# EAGLE library part TXB0104 (library Eagle_CAD_parts)
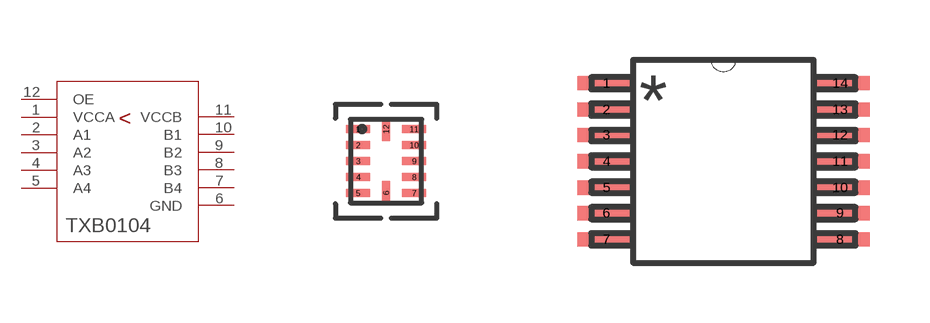
[diagram p37: symbol with the pads of 12-UQFN; footprints 12-UQFN, 14-TSSOP]

Designator prefix U

## TXB0104_RUTR (DIGIKEY_PART_NUMBER: 296-25888-1-ND; MANUFACTURER_PART_NUMBER: TXB0104RUTR)  [12-UQFN]
1  VCCA  pwr
2  A1
3  A2
4  A3
5  A4
6  GND  pwr
7  B4
8  B3
9  B2
10  B1
11  VCCB  pwr
12  OE  out

## TXB0104_PWR (DIGIKEY_PART_NUMBER: 296-21929-1-ND)  [14-TSSOP]
1  VCCA  pwr
2  A1
3  A2
4  A3
5  A4
7  GND  pwr
8  OE  out
10  B4
11  B3
12  B2
13  B1
14  VCCB  pwr

## Footprint 12-UQFN (pad centres in mm)
smd 0.6 x 0.2: 1 -0.7,0.8; 2 -0.7,0.4; 3 -0.7,0; 4 -0.7,-0.4; 5 -0.7,-0.8; 7 0.7,-0.8; 8 0.7,-0.4; 9 0.7,0; 10 0.7,0.4; 11 0.7,0.8
smd 0.2 x 0.6: 6 0,-0.8; 12 0,0.8

## Footprint 14-TSSOP (pad centres in mm)
smd 1.473 x 0.356: 1 -2.921,1.956; 2 -2.921,1.295; 3 -2.921,0.66; 4 -2.921,0; 5 -2.921,-0.66; 6 -2.921,-1.295; 7 -2.921,-1.956; 8 2.921,-1.956; 9 2.921,-1.295; 10 2.921,-0.66; 11 2.921,0; 12 2.921,0.66; 13 2.921,1.295; 14 2.921,1.956